# Altium footprint library PcbLib.PcbLib: 1 footprints
Each footprint in its own frame and in the unit in brackets; x right, y up, seen from the top. Pads: shape width x height; smd on the part's side, far side on the other; paste and mask are expansions set on the pad; w line width, h text height; cw(c..) or ccw(c..) is an arc to the next point about the centre after c.
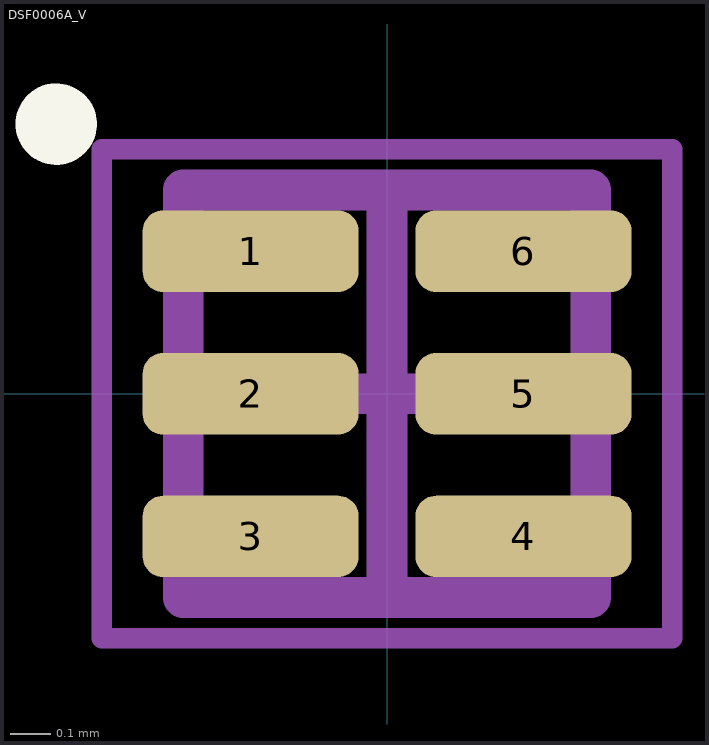
[diagram p0: the footprint, top view; thin cyan lines are the x and y axes]

## DSF0006A_V [mm] "SON, 6-Leads, Body 1x1mm, Pitch 0.35mm, TI Recommend"
height 0.4
pads (6):
  rrect50% 0.53x0.2 smd paste-0.5: 1(-0.335,0.35) 2(-0.335,0) 3(-0.335,-0.35) 4(0.335,-0.35) 5(0.335,0) 6(0.335,0.35)
Top Overlay:
  circle w0.1: c-0.812,0.662 r0.05
Top Paste:
  region: 0.6,0.433 0.07,0.433 0.07,0.268 0.6,0.268
  region: 0.6,0.083 0.07,0.083 0.07,-0.082 0.6,-0.082
  region: 0.6,-0.267 0.07,-0.267 0.07,-0.433 0.6,-0.433
  rectangle: -0.6,-0.433 -0.07,-0.267
  rectangle: -0.6,-0.082 -0.07,0.083
  rectangle: -0.6,0.268 -0.07,0.433
Mechanical 1:
  text ".Designator" at -0.381,-0.127 h0.2
Mechanical 13:
  lines w0.1: -0.5,-0.5 -0.5,0.5 0.5,0.5 0.5,-0.5 -0.5,-0.5
Mechanical 15:
  lines w0.05: -0.7,-0.6 -0.7,0.6 0.7,0.6 0.7,-0.6 -0.7,-0.6
  lines w0.1: -0.5,0 0.5,0 ; 0,-0.5 0,0.5
3D body: height 0.4, standoff 0, extent -0.5,-0.5 0.5,0.5